# Altium footprint library Inductors_imp.PCBLIB: 15 footprints
Each footprint in its own frame and in the unit in brackets; x right, y up, seen from the top. Pads: shape width x height; smd on the part's side, far side on the other; paste and mask are expansions set on the pad; w line width, h text height; cw(c..) or ccw(c..) is an arc to the next point about the centre after c.
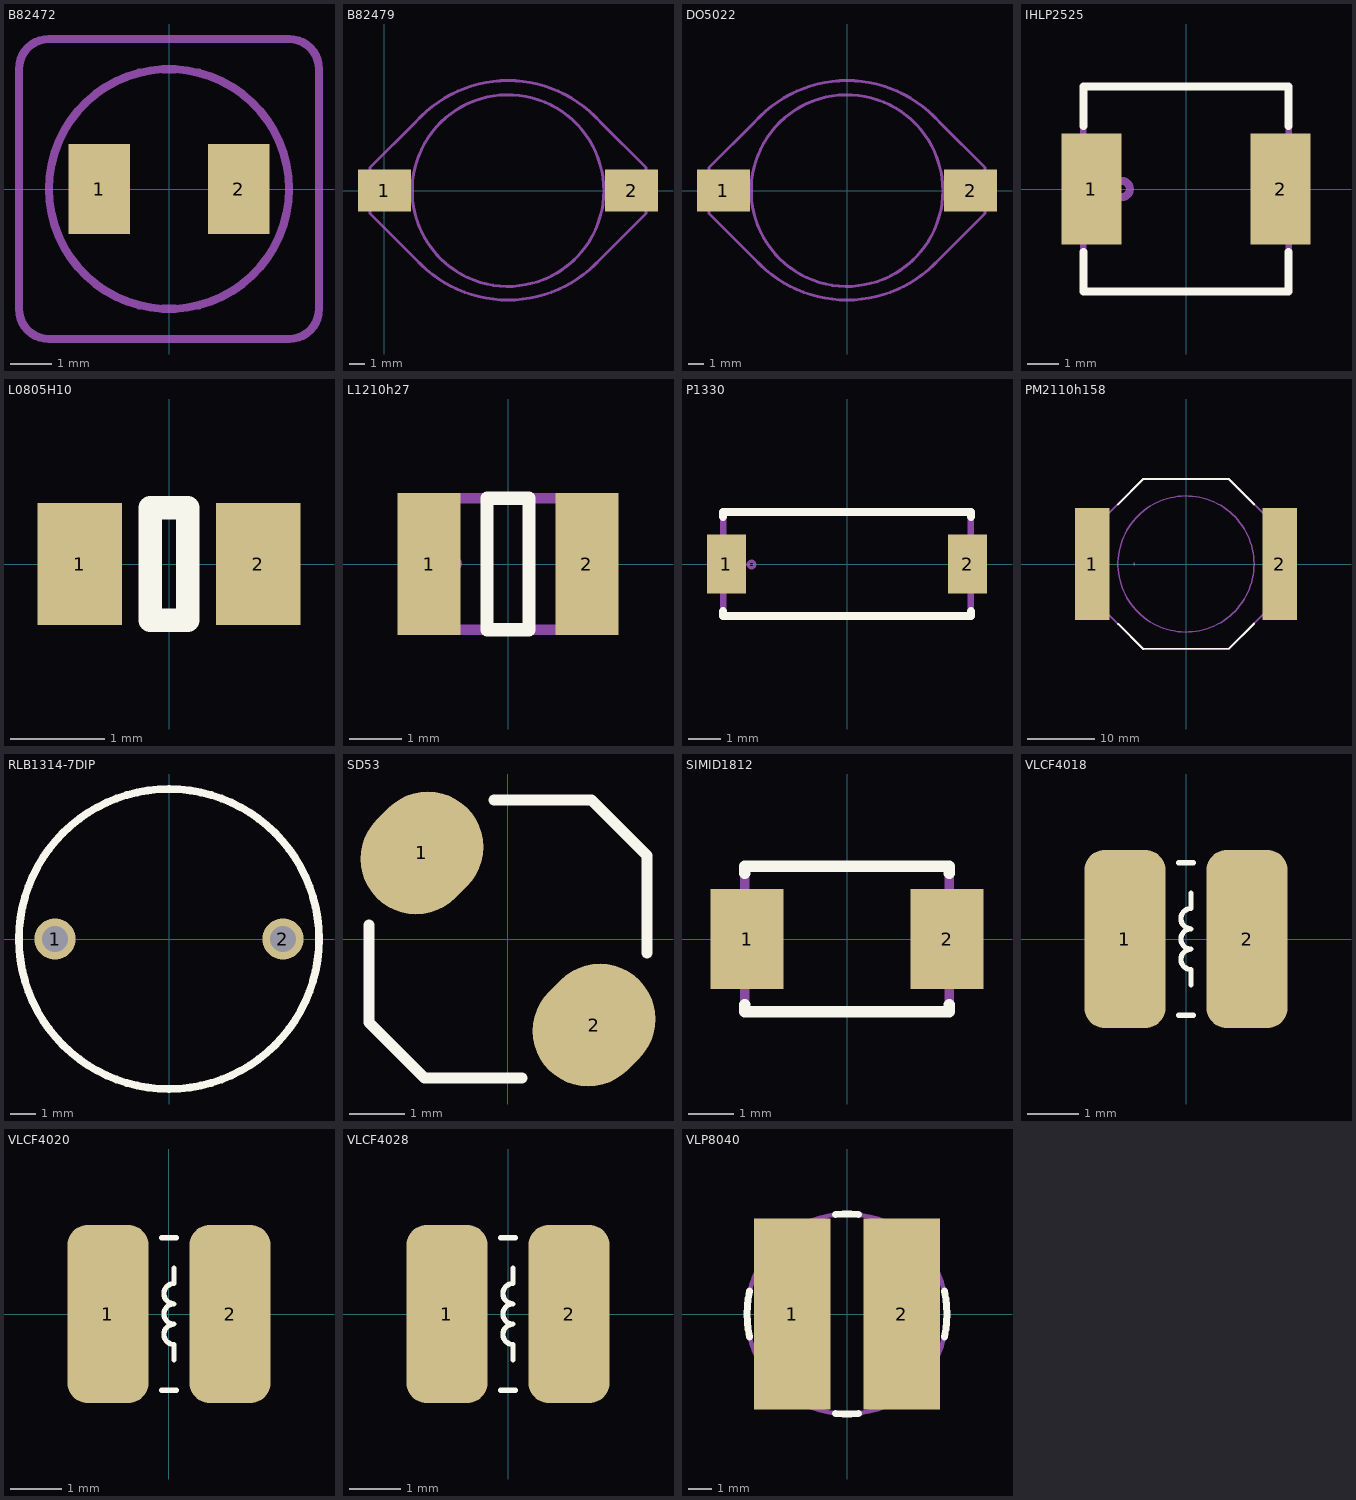
[diagram p0: the footprints below, top view; thin cyan lines are the x and y axes]

## B82472 [mm]
height 3.5
pads (2):
  rect 1.5x2.2 smd: 1(-1.7,0) 2(1.7,0)
Mechanical 1:
  circle w0.2: c0,0 r2.92
  circle w0.1: c-1.8,0.25 r0.1
  lines w0.2: -3.65,-2.92 ccw(c-2.92,-2.92) -2.92,-3.65 2.92,-3.65 ccw(c2.92,-2.92) 3.65,-2.92 3.65,2.92 ccw(c2.92,2.92) 2.92,3.65 -2.92,3.65 ccw(c-2.92,2.92) -3.65,2.92 -3.65,-2.92
  text ".Designator" at -0.73,0 h1.5
  text ".Comment" at -2.92,-5.11 h1.5
3D body "B82472.stp": height 3.5, standoff 0, extent -3.65,-3.65 3.65,3.65

## B82479 [mm]
height 7.11
pads (2):
  rect 3.5x2.8 smd: 1(0,0) 2(16.383,0)
Mechanical 1:
  circle w0.1: c0.847,0.008 r0.1
  circle w0.2: c8.192,0 r6.35
  lines w0.2: 2.094,-4.571 ccw(c8.191,1.016) 14.289,-4.571 ; 2.095,-4.572 -0.953,-1.524 -0.953,1.524 2.095,4.572 ; 2.1,4.577 cw(c8.191,-0.889) 14.283,4.577 ; 14.287,-4.572 17.335,-1.524 17.335,1.524 14.287,4.572
  text ".Comment" at 4.65,-1.18 h1.5
  text ".Designator" at 6.24,0.52 h1.5
3D body "B82479.stp": height 5.61, standoff 0, extent -1.075,-7.62 17.465,7.62

## DO5022 [mm]
height 8.61
pads (2):
  rect 3.5x2.8 smd: 1(-8.191,0) 2(8.191,0)
Mechanical 1:
  circle w0.2: c0,0 r6.35
  circle w0.1: c-7.528,-0.017 r0.1
  lines w0.2: -6.097,-4.571 ccw(c0,1.016) 6.097,-4.571 ; -6.096,-4.572 -9.144,-1.524 -9.144,1.524 -6.096,4.572 ; -6.092,4.577 cw(c0,-0.889) 6.092,4.577 ; 6.096,-4.572 9.144,-1.524 9.144,1.524 6.096,4.572
  text ".Designator" at -1.11,0.695 h1.5
  text ".Comment" at -2.7,-1.005 h1.5
3D body "DO5022.stp": height 7.11, standoff 0, extent -9.266,-7.62 9.274,7.62

## IHLP2525 [mm]
height 1.8
pads (2):
  rect 1.9x3.5 smd: 1(-3,0) 2(3,0)
Top Overlay:
  lines w0.25: -3.25,-2 -3.25,-3.25 3.25,-3.25 3.25,-2 ; -3.25,2 -3.25,3.25 3.25,3.25 3.25,2
Mechanical 1:
  circle w0.25: c-2.032,0 r0.254
  lines w0.2: -3.25,-3.25 -3.25,3.25 3.25,3.25 3.25,-3.25 -3.25,-3.25
  text ".Comment" at -2.9,-1.555 h1.5
  text ".Designator" at -1.31,0.145 h1.5
3D body "IHLP2525.stp": height 1.8, standoff 0, extent -3.625,-3.35 3.623,3.374

## L0805H10 [mm]
height 1
pads (2):
  rect 0.9x1.3 smd: 1(-0.95,0) 2(0.95,0)
Top Overlay:
  lines w0.25: -0.2,-0.6 0.2,-0.6 0.2,0.6 -0.2,0.6 -0.2,-0.6
3D body "User Library-ind_0805.step": height 0.95, standoff 0, extent -1,-0.6 1,0.6

## L1210h27 [mm]
height 2.7
pads (2):
  rect 1.2x2.7 smd: 1(-1.5,0) 2(1.5,0)
Top Overlay:
  lines w0.25: -0.4,-1.25 -0.4,1.25 0.4,1.25 0.4,-1.25 -0.4,-1.25
Mechanical 1:
  circle w0.1: c-1.028,0.008 r0.1
  lines w0.2: -1.6,-1.25 -1.6,1.25 1.6,1.25 1.6,-1.25 -1.6,-1.25
  text ".Designator" at -0.985,1.695 h1.5
3D body "L1210h27.stp": height 2.7, standoff 0, extent -1.675,-1.325 1.675,1.325

## P1330 [mm]
height 3.68
pads (2):
  rect 1.2x1.8 smd: 1(-3.7,0) 2(3.7,0)
Top Overlay:
  lines w0.25: -3.8,-1.45 -3.8,-1.6 3.8,-1.6 3.8,-1.45 ; -3.8,1.45 -3.8,1.6 3.8,1.6 3.8,1.45
Mechanical 1:
  circle w0.1: c-2.928,-0.017 r0.1
  lines w0.2: -3.8,-1.6 -3.8,1.6 3.8,1.6 3.8,-1.6 -3.8,-1.6
  text ".Designator" at -1.36,-0.355 h1.5
3D body "P1330.stp": height 1.8, standoff 0, extent -4.1,-1.7 4.1,1.7

## PM2110h158 [mm]
height 15.8
pads (2):
  rect 5.1x16.8 smd: 1(-14,0) 2(14,0)
Top Overlay:
  lines w0.3: -10.148,8.902 -6.35,12.7 6.35,12.7 10.16,8.89 ; -10.125,-8.925 -6.35,-12.7 6.451,-12.599 10.153,-8.897
Mechanical 1:
  circle w0.2: c0,0 r10.16
  circle w0.1: c-7.72,0 r0.1
  lines w0.2: -12.7,-6.35 -15.24,-6.35 -15.24,6.35 -12.7,6.35 ; -12.7,-6.35 -12.7,6.35 ; -12.7,-6.35 -6.35,-12.7 6.35,-12.7 12.585,-6.465 12.7,-6.35 ; -12.7,6.35 -6.35,12.7 6.35,12.7 12.7,6.35 ; 12.7,-6.35 15.24,-6.35 15.24,6.35 12.7,6.35 ; 12.7,-6.35 12.7,6.35
  text ".Comment" at -3.541,-1.18 h1.5
  text ".Designator" at -1.951,0.52 h1.5
3D body "PM2110h158.stp": height 15.8, standoff 0, extent -15.5,-12.7 15.5,12.7

## RLB1314-7DIP [mm] "BOURNS"
height 12
pads (2):
  round 1.6 hole 1: 1(-4.445,0) 2(4.445,0)
Top Overlay:
  circle w0.3: c0,0 r5.85
Mechanical 1:
  circle w0.1: c-3.91,0 r0.1
  circle w0.2: c0,0 r5.85
  text ".Designator" at -3.048,-0.381 h1.5
3D body "RLB1314-10ML.STEP": height 12, standoff -4, extent -5.85,-5.85 5.85,5.85

## SD53 [mm]
pads (2):
  oval 2.3x2 smd rot 45: 1(-1.55,1.55) 2(1.55,-1.55)
Top Overlay:
  lines w0.2: -2.5,0.25 -2.5,-1.5 -1.5,-2.5 0.25,-2.5 ; -0.25,2.5 1.5,2.5 2.5,1.5 2.5,-0.25
3D body: height 3, standoff 0, extent -2.5,-2.5 2.5,2.5

## SIMID1812 [mm]
height 1.8
pads (2):
  rect 1.6x2.2 smd: 1(-2.2,0) 2(2.2,0)
Top Overlay:
  lines w0.25: -2.25,-1.45 -2.25,-1.6 2.25,-1.6 2.25,-1.45 ; -2.25,1.45 -2.25,1.6 2.25,1.6 2.25,1.45
Mechanical 1:
  circle w0.1: c-1.653,-0.017 r0.1
  lines w0.2: -2.25,-1.6 2.25,-1.6 2.25,1.6 -2.25,1.6 -2.25,-1.6
  text ".Designator" at -1.36,-0.355 h1.5
3D body "SIMID1812.stp": height 1.8, standoff 0, extent -2.35,-1.7 2.35,1.7

## VLCF4018 [mm] "VLCF4028"
pads (2):
  rrect50% 1.6x3.5 smd: 1(-1.2,0) 2(1.2,0)
Top Overlay:
  lines w0.1: -0.15,-1.5 0.15,-1.5 ; -0.15,1.5 0.15,1.5 ; 0.1,-0.9 0.1,-0.6 cw(c0.1,-0.4) 0.1,-0.2 cw(c0.1,0) 0.1,0.2 cw(c0.1,0.4) 0.1,0.6 0.1,0.9
3D body: height 1.8, standoff 0, extent -2,-2 2,2

## VLCF4020 [mm] "Coilcraft"
pads (2):
  rrect50% 1.6x3.5 smd: 1(-1.2,0) 2(1.2,0)
Top Overlay:
  lines w0.1: -0.15,-1.5 0.15,-1.5 ; -0.15,1.5 0.15,1.5 ; 0.1,-0.9 0.1,-0.6 cw(c0.1,-0.4) 0.1,-0.2 cw(c0.1,0) 0.1,0.2 cw(c0.1,0.4) 0.1,0.6 0.1,0.9
3D body: height 2, standoff 0, extent -2,-2 2,2

## VLCF4028 [mm] "VLCF4028"
pads (2):
  rrect50% 1.6x3.5 smd: 1(-1.2,0) 2(1.2,0)
Top Overlay:
  lines w0.1: -0.15,-1.5 0.15,-1.5 ; -0.15,1.5 0.15,1.5 ; 0.1,-0.9 0.1,-0.6 cw(c0.1,-0.4) 0.1,-0.2 cw(c0.1,0) 0.1,0.2 cw(c0.1,0.4) 0.1,0.6 0.1,0.9
3D body: height 2.8, standoff 0, extent -2,-2 2,2

## VLP8040 [mm] "Дроссель VLP8040"
height 4
pads (2):
  rect 3.3x8.2 smd: 1(-2.35,0) 2(2.35,0)
Top Overlay:
  lines w0.3: -4.186,-0.985 cw(c0,0) -4.186,0.985 ; -0.502,-4.271 ccw(c0,0) 0.502,-4.271 ; -0.502,4.271 cw(c0,0) 0.502,4.271 ; 4.186,-0.985 ccw(c0,0) 4.186,0.985
Mechanical 1:
  circle w0.2: c0,0 r4.3
  text ".Comment" at -3,-1 h1.5
  text ".Designator" at -3,0.25 h1.5
3D body: height 4, standoff 0, extent -4.266,-4.291 4.3,4.292